# Altium integrated library Xilinx Memory SPROM.IntLib: 32 symbols
Pins are listed as number, name and electrical type; pins without a type are passive.

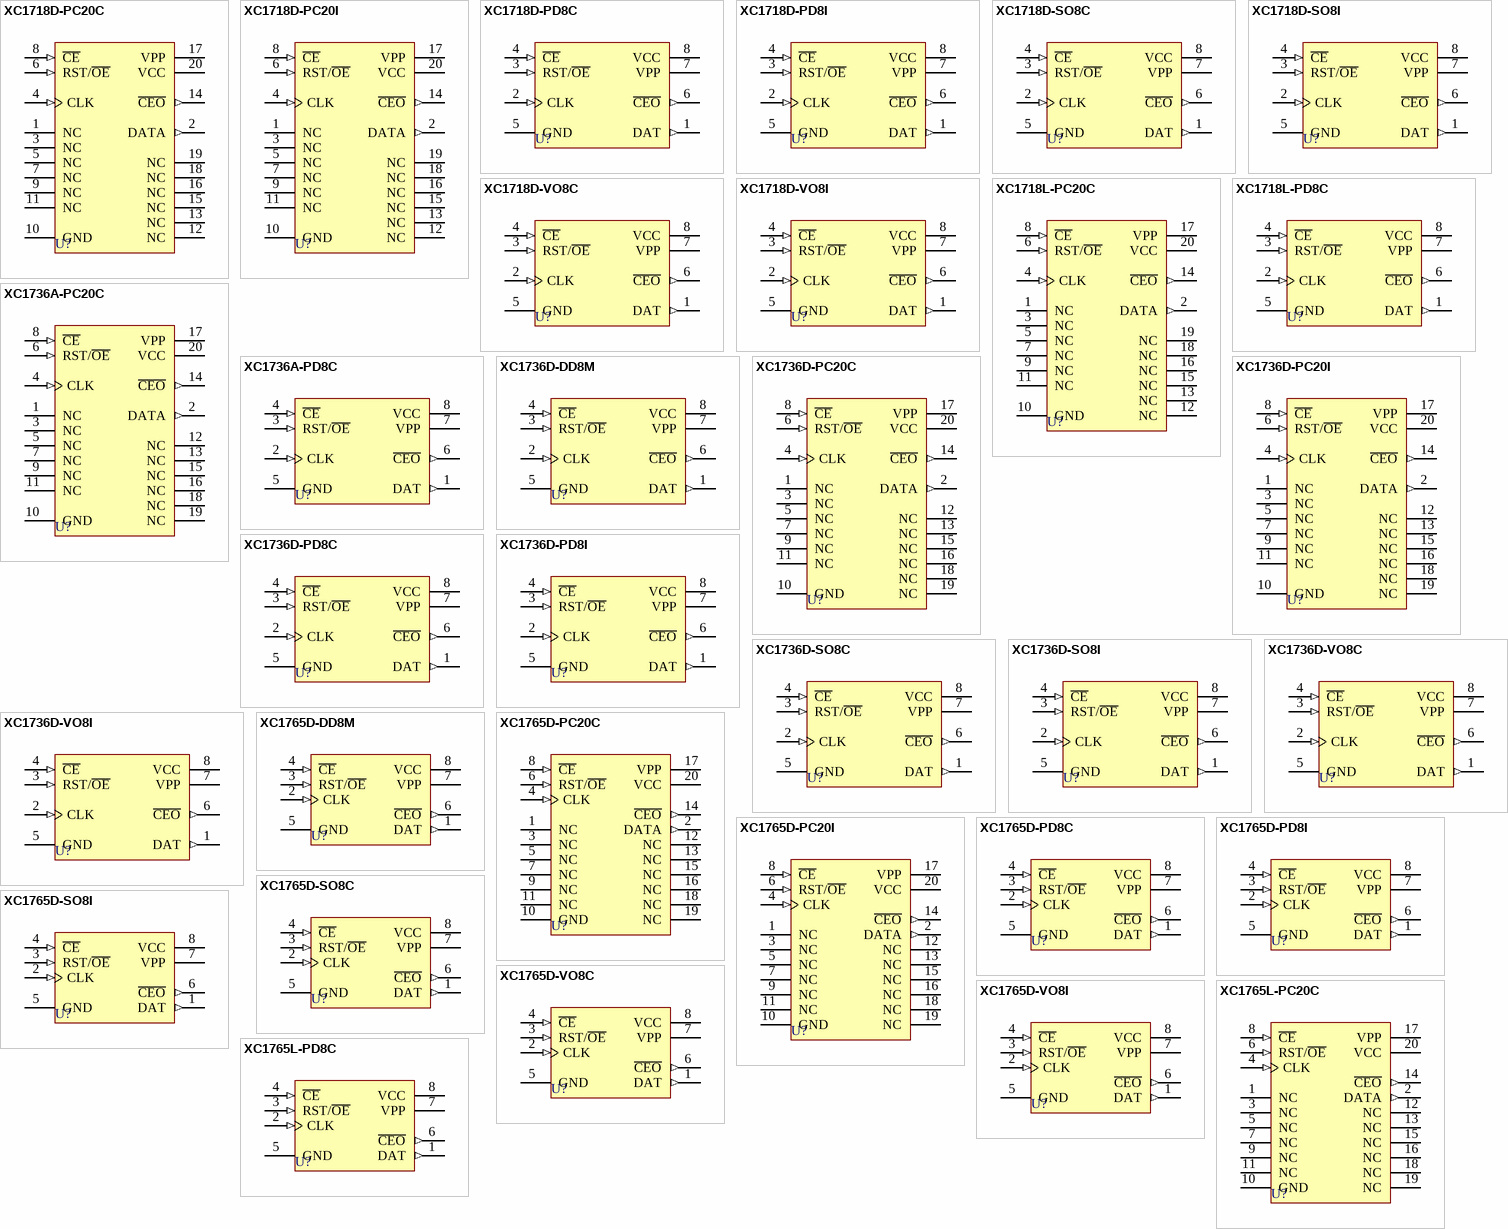
[diagram p0: symbols XC1718D-PC20C to XC1765L-PD8C]

## XC1718D-PC20C
designator U?
Serial Configuration PROM, 20-Pin PLCC, Commercial Grade; PackageDocument: ver1.0, Jun-2000; Published: 8-Jun-2000; LatestRevisionDate: 17-Sep-2003; LatestRevisionNote: PCB Footprint dimensions updated; DatasheetDocument: 1994; PackageReference: PC20; Publisher: Altium Limited; Code_JEDEC: MS-047
footprint PC20 (20-Pin Plastic Leaded Chip Carrier (PC20))
pins: 1 NC, 2 DATA (out), 3 NC, 4 CLK (in), 5 NC, 6 RST/~{OE} (in), 7 NC, 8 ~{CE} (in), 9 NC, 10 GND (power), 11 NC, 12 NC, 13 NC, 14 ~{CEO} (out), 15 NC, 16 NC, 17 VPP (power), 18 NC, 19 NC, 20 VCC (power)

## XC1718D-PC20I
designator U?
Serial Configuration PROM, 20-Pin PLCC, Industrial Grade; PackageDocument: ver1.0, Jun-2000; Published: 8-Jun-2000; LatestRevisionDate: 17-Sep-2003; LatestRevisionNote: PCB Footprint dimensions updated; DatasheetDocument: 1994; PackageReference: PC20; Publisher: Altium Limited; Code_JEDEC: MS-047
footprint PC20 (20-Pin Plastic Leaded Chip Carrier (PC20))
pins: 1 NC, 2 DATA (out), 3 NC, 4 CLK (in), 5 NC, 6 RST/~{OE} (in), 7 NC, 8 ~{CE} (in), 9 NC, 10 GND (power), 11 NC, 12 NC, 13 NC, 14 ~{CEO} (out), 15 NC, 16 NC, 17 VPP (power), 18 NC, 19 NC, 20 VCC (power)

## XC1718D-PD8C
designator U?
Serial Configuration PROM, 8-Pin PDIP, Commercial Grade; PackageDocument: rev1.1, Apr-2001; Published: 8-Jun-2000; LatestRevisionDate: 17-Jul-2002; LatestRevisionNote: Re-released for DXP Platform.; DatasheetDocument: 1994; PackageReference: PD8; Publisher: Altium Limited; Code_JEDEC: MS-001-BA
footprint PD8 (8-Pin Plastic DIP (PD8))
pins: 1 DAT (out), 2 CLK (in), 3 RST/~{OE} (in), 4 ~{CE} (in), 5 GND (power), 6 ~{CEO} (out), 7 VPP (power), 8 VCC (power)

## XC1718D-PD8I
designator U?
Serial Configuration PROM, 8-Pin PDIP, Industrial Grade; PackageDocument: rev1.1, Apr-2001; Published: 8-Jun-2000; LatestRevisionDate: 17-Jul-2002; LatestRevisionNote: Re-released for DXP Platform.; DatasheetDocument: 1994; PackageReference: PD8; Publisher: Altium Limited; Code_JEDEC: MS-001-BA
footprint PD8 (8-Pin Plastic DIP (PD8))
pins: 1 DAT (out), 2 CLK (in), 3 RST/~{OE} (in), 4 ~{CE} (in), 5 GND (power), 6 ~{CEO} (out), 7 VPP (power), 8 VCC (power)

## XC1718D-SO8C
designator U?
Serial Configuration PROM, 8-Pin SOIC, Commercial Grade; PackageDocument: ver1.1, Apr-2001; Published: 8-Jun-2000; LatestRevisionDate: 17-Sep-2003; LatestRevisionNote: PCB Footprint dimensions updated; DatasheetDocument: 1994; PackageReference: SO8; Publisher: Altium Limited; Code_JEDEC: MS-012
footprint SO8 (8-Lead SOIC (SO8))
pins: 1 DAT (out), 2 CLK (in), 3 RST/~{OE} (in), 4 ~{CE} (in), 5 GND (power), 6 ~{CEO} (out), 7 VPP (power), 8 VCC (power)

## XC1718D-SO8I
designator U?
Serial Configuration PROM, 8-Pin SOIC, Industrial Grade; PackageDocument: ver1.1, Apr-2001; Published: 8-Jun-2000; LatestRevisionDate: 17-Sep-2003; LatestRevisionNote: PCB Footprint dimensions updated; DatasheetDocument: 1994; PackageReference: SO8; Publisher: Altium Limited; Code_JEDEC: MS-012
footprint SO8 (8-Lead SOIC (SO8))
pins: 1 DAT (out), 2 CLK (in), 3 RST/~{OE} (in), 4 ~{CE} (in), 5 GND (power), 6 ~{CEO} (out), 7 VPP (power), 8 VCC (power)

## XC1718D-VO8C
designator U?
Serial Configuration PROM, 8-Pin TSOP, Commercial Grade; PackageDocument: ver1.1, Apr-2001; Published: 8-Jun-2000; LatestRevisionDate: 17-Sep-2003; LatestRevisionNote: PCB Footprint dimensions updated; DatasheetDocument: 1994; PackageReference: VO8; Publisher: Altium Limited
footprint VO8 (8-Lead TSOP (VO8))
pins: 1 DAT (out), 2 CLK (in), 3 RST/~{OE} (in), 4 ~{CE} (in), 5 GND (power), 6 ~{CEO} (out), 7 VPP (power), 8 VCC (power)

## XC1718D-VO8I
designator U?
Serial Configuration PROM, 8-Pin TSOP, Industrial Grade; PackageDocument: ver1.1, Apr-2001; Published: 8-Jun-2000; LatestRevisionDate: 17-Sep-2003; LatestRevisionNote: PCB Footprint dimensions updated; DatasheetDocument: 1994; PackageReference: VO8; Publisher: Altium Limited
footprint VO8 (8-Lead TSOP (VO8))
pins: 1 DAT (out), 2 CLK (in), 3 RST/~{OE} (in), 4 ~{CE} (in), 5 GND (power), 6 ~{CEO} (out), 7 VPP (power), 8 VCC (power)

## XC1718L-PC20C
designator U?
Serial Configuration PROM, 20-Pin PLCC, Commercial Grade; PackageDocument: ver1.0, Jun-2000; Published: 8-Jun-2000; LatestRevisionDate: 17-Sep-2003; LatestRevisionNote: PCB Footprint dimensions updated; DatasheetDocument: 1994; PackageReference: PC20; Publisher: Altium Limited; Code_JEDEC: MS-047
footprint PC20 (20-Pin Plastic Leaded Chip Carrier (PC20))
pins: 1 NC, 2 DATA (out), 3 NC, 4 CLK (in), 5 NC, 6 RST/~{OE} (in), 7 NC, 8 ~{CE} (in), 9 NC, 10 GND (power), 11 NC, 12 NC, 13 NC, 14 ~{CEO} (out), 15 NC, 16 NC, 17 VPP (power), 18 NC, 19 NC, 20 VCC (power)

## XC1718L-PD8C
designator U?
Serial Configuration PROM, 8-Pin PDIP, Commercial Grade; PackageDocument: rev1.1, Apr-2001; Published: 8-Jun-2000; LatestRevisionDate: 17-Jul-2002; LatestRevisionNote: Re-released for DXP Platform.; DatasheetDocument: 1994; PackageReference: PD8; Publisher: Altium Limited; Code_JEDEC: MS-001-BA
footprint PD8 (8-Pin Plastic DIP (PD8))
pins: 1 DAT (out), 2 CLK (in), 3 RST/~{OE} (in), 4 ~{CE} (in), 5 GND (power), 6 ~{CEO} (out), 7 VPP (power), 8 VCC (power)

## XC1736A-PC20C
designator U?
Serial Configuration PROM, 20-Pin PLCC, Commercial Grade; PackageDocument: ver1.0, Jun-2000; Published: 8-Jun-2000; LatestRevisionDate: 17-Sep-2003; LatestRevisionNote: PCB Footprint dimensions updated; DatasheetDocument: 1992; PackageReference: PC20; Publisher: Altium Limited; Code_JEDEC: MS-047
footprint PC20 (20-Pin Plastic Leaded Chip Carrier (PC20))
pins: 1 NC, 2 DATA (out), 3 NC, 4 CLK (in), 5 NC, 6 RST/~{OE} (in), 7 NC, 8 ~{CE} (in), 9 NC, 10 GND (power), 11 NC, 12 NC, 13 NC, 14 ~{CEO} (out), 15 NC, 16 NC, 17 VPP (power), 18 NC, 19 NC, 20 VCC (power)

## XC1736A-PD8C
designator U?
Serial Configuration PROM, 8-Pin PDIP, Commercial Grade; PackageDocument: rev1.1, Apr-2001; Published: 8-Jun-2000; LatestRevisionDate: 17-Jul-2002; LatestRevisionNote: Re-released for DXP Platform.; DatasheetDocument: 1992; PackageReference: PD8; Publisher: Altium Limited; Code_JEDEC: MS-001-BA
footprint PD8 (8-Pin Plastic DIP (PD8))
pins: 1 DAT (out), 2 CLK (in), 3 RST/~{OE} (in), 4 ~{CE} (in), 5 GND (power), 6 ~{CEO} (out), 7 VPP (power), 8 VCC (power)

## XC1736D-DD8M
designator U?
Serial Configuration PROM, 8-Pin DIP, Military Grade; PackageDocument: rev1.0, Apr-2001; Published: 8-Jun-2000; LatestRevisionDate: 17-Sep-2003; LatestRevisionNote: PCB Footprint dimensions updated; DatasheetDocument: 1994; PackageReference: DD8; Publisher: Altium Limited; Code_JEDEC: MO-001-AN*
footprint DD8 (8-Pin Ceramic DIP (DD8))
pins: 1 DAT (out), 2 CLK (in), 3 RST/~{OE} (in), 4 ~{CE} (in), 5 GND (power), 6 ~{CEO} (out), 7 VPP (power), 8 VCC (power)

## XC1736D-PC20C
designator U?
Serial Configuration PROM, 20-Pin PLCC, Commercial Grade; PackageDocument: ver1.0, Jun-2000; Published: 8-Jun-2000; LatestRevisionDate: 17-Sep-2003; LatestRevisionNote: PCB Footprint dimensions updated; DatasheetDocument: 1994; PackageReference: PC20; Publisher: Altium Limited; Code_JEDEC: MS-047
footprint PC20 (20-Pin Plastic Leaded Chip Carrier (PC20))
pins: 1 NC, 2 DATA (out), 3 NC, 4 CLK (in), 5 NC, 6 RST/~{OE} (in), 7 NC, 8 ~{CE} (in), 9 NC, 10 GND (power), 11 NC, 12 NC, 13 NC, 14 ~{CEO} (out), 15 NC, 16 NC, 17 VPP (power), 18 NC, 19 NC, 20 VCC (power)

## XC1736D-PC20I
designator U?
Serial Configuration PROM, 20-Pin PLCC, Industrial Grade; PackageDocument: ver1.0, Jun-2000; Published: 8-Jun-2000; LatestRevisionDate: 17-Sep-2003; LatestRevisionNote: PCB Footprint dimensions updated; DatasheetDocument: 1994; PackageReference: PC20; Publisher: Altium Limited; Code_JEDEC: MS-047
footprint PC20 (20-Pin Plastic Leaded Chip Carrier (PC20))
pins: 1 NC, 2 DATA (out), 3 NC, 4 CLK (in), 5 NC, 6 RST/~{OE} (in), 7 NC, 8 ~{CE} (in), 9 NC, 10 GND (power), 11 NC, 12 NC, 13 NC, 14 ~{CEO} (out), 15 NC, 16 NC, 17 VPP (power), 18 NC, 19 NC, 20 VCC (power)

## XC1736D-PD8C
designator U?
Serial Configuration PROM, 8-Pin PDIP, Commercial Grade; PackageDocument: rev1.1, Apr-2001; Published: 8-Jun-2000; LatestRevisionDate: 17-Jul-2002; LatestRevisionNote: Re-released for DXP Platform.; DatasheetDocument: 1994; PackageReference: PD8; Publisher: Altium Limited; Code_JEDEC: MS-001-BA
footprint PD8 (8-Pin Plastic DIP (PD8))
pins: 1 DAT (out), 2 CLK (in), 3 RST/~{OE} (in), 4 ~{CE} (in), 5 GND (power), 6 ~{CEO} (out), 7 VPP (power), 8 VCC (power)

## XC1736D-PD8I
designator U?
Serial Configuration PROM, 8-Pin PDIP, Industrial Grade; PackageDocument: rev1.1, Apr-2001; Published: 8-Jun-2000; LatestRevisionDate: 17-Jul-2002; LatestRevisionNote: Re-released for DXP Platform.; DatasheetDocument: 1994; PackageReference: PD8; Publisher: Altium Limited; Code_JEDEC: MS-001-BA
footprint PD8 (8-Pin Plastic DIP (PD8))
pins: 1 DAT (out), 2 CLK (in), 3 RST/~{OE} (in), 4 ~{CE} (in), 5 GND (power), 6 ~{CEO} (out), 7 VPP (power), 8 VCC (power)

## XC1736D-SO8C
designator U?
Serial Configuration PROM, 8-Pin SOIC, Commercial Grade; PackageDocument: ver1.1, Apr-2001; Published: 8-Jun-2000; LatestRevisionDate: 17-Sep-2003; LatestRevisionNote: PCB Footprint dimensions updated; DatasheetDocument: 1994; PackageReference: SO8; Publisher: Altium Limited; Code_JEDEC: MS-012
footprint SO8 (8-Lead SOIC (SO8))
pins: 1 DAT (out), 2 CLK (in), 3 RST/~{OE} (in), 4 ~{CE} (in), 5 GND (power), 6 ~{CEO} (out), 7 VPP (power), 8 VCC (power)

## XC1736D-SO8I
designator U?
Serial Configuration PROM, 8-Pin SOIC, Industrial Grade; PackageDocument: ver1.1, Apr-2001; Published: 8-Jun-2000; LatestRevisionDate: 17-Sep-2003; LatestRevisionNote: PCB Footprint dimensions updated; DatasheetDocument: 1994; PackageReference: SO8; Publisher: Altium Limited; Code_JEDEC: MS-012
footprint SO8 (8-Lead SOIC (SO8))
pins: 1 DAT (out), 2 CLK (in), 3 RST/~{OE} (in), 4 ~{CE} (in), 5 GND (power), 6 ~{CEO} (out), 7 VPP (power), 8 VCC (power)

## XC1736D-VO8C
designator U?
Serial Configuration PROM, 8-Pin TSOP, Commercial Grade; PackageDocument: ver1.1, Apr-2001; Published: 8-Jun-2000; LatestRevisionDate: 17-Sep-2003; LatestRevisionNote: PCB Footprint dimensions updated; DatasheetDocument: 1994; PackageReference: VO8; Publisher: Altium Limited
footprint VO8 (8-Lead TSOP (VO8))
pins: 1 DAT (out), 2 CLK (in), 3 RST/~{OE} (in), 4 ~{CE} (in), 5 GND (power), 6 ~{CEO} (out), 7 VPP (power), 8 VCC (power)

## XC1736D-VO8I
designator U?
Serial Configuration PROM, 8-Pin TSOP, Industrial Grade; PackageDocument: ver1.1, Apr-2001; Published: 8-Jun-2000; LatestRevisionDate: 17-Sep-2003; LatestRevisionNote: PCB Footprint dimensions updated; DatasheetDocument: 1994; PackageReference: VO8; Publisher: Altium Limited
footprint VO8 (8-Lead TSOP (VO8))
pins: 1 DAT (out), 2 CLK (in), 3 RST/~{OE} (in), 4 ~{CE} (in), 5 GND (power), 6 ~{CEO} (out), 7 VPP (power), 8 VCC (power)

## XC1765D-DD8M
designator U?
Serial Configuration PROM, 8-Pin DIP, Military Grade; PackageDocument: rev1.0, Apr-2001; Published: 8-Jun-2000; LatestRevisionDate: 17-Sep-2003; LatestRevisionNote: PCB Footprint dimensions updated; DatasheetDocument: 1994; PackageReference: DD8; Publisher: Altium Limited; Code_JEDEC: MO-001-AN*
footprint DD8 (8-Pin Ceramic DIP (DD8))
pins: 1 DAT (out), 2 CLK (in), 3 RST/~{OE} (in), 4 ~{CE} (in), 5 GND (power), 6 ~{CEO} (out), 7 VPP (power), 8 VCC (power)

## XC1765D-PC20C
designator U?
Serial Configuration PROM, 20-Pin PLCC, Commercial Grade; PackageDocument: ver1.0, Jun-2000; Published: 8-Jun-2000; LatestRevisionDate: 17-Sep-2003; LatestRevisionNote: PCB Footprint dimensions updated; DatasheetDocument: 1994; PackageReference: PC20; Publisher: Altium Limited; Code_JEDEC: MS-047
footprint PC20 (20-Pin Plastic Leaded Chip Carrier (PC20))
pins: 1 NC, 2 DATA (out), 3 NC, 4 CLK (in), 5 NC, 6 RST/~{OE} (in), 7 NC, 8 ~{CE} (in), 9 NC, 10 GND (power), 11 NC, 12 NC, 13 NC, 14 ~{CEO} (out), 15 NC, 16 NC, 17 VPP (power), 18 NC, 19 NC, 20 VCC (power)

## XC1765D-PC20I
designator U?
Serial Configuration PROM, 20-Pin PLCC, Industrial Grade; PackageDocument: ver1.0, Jun-2000; Published: 8-Jun-2000; LatestRevisionDate: 17-Sep-2003; LatestRevisionNote: PCB Footprint dimensions updated; DatasheetDocument: 1994; PackageReference: PC20; Publisher: Altium Limited; Code_JEDEC: MS-047
footprint PC20 (20-Pin Plastic Leaded Chip Carrier (PC20))
pins: 1 NC, 2 DATA (out), 3 NC, 4 CLK (in), 5 NC, 6 RST/~{OE} (in), 7 NC, 8 ~{CE} (in), 9 NC, 10 GND (power), 11 NC, 12 NC, 13 NC, 14 ~{CEO} (out), 15 NC, 16 NC, 17 VPP (power), 18 NC, 19 NC, 20 VCC (power)

## XC1765D-PD8C
designator U?
Serial Configuration PROM, 8-Pin PDIP, Commercial Grade; PackageDocument: rev1.1, Apr-2001; Published: 8-Jun-2000; LatestRevisionDate: 17-Jul-2002; LatestRevisionNote: Re-released for DXP Platform.; DatasheetDocument: 1994; PackageReference: PD8; Publisher: Altium Limited; Code_JEDEC: MS-001-BA
footprint PD8 (8-Pin Plastic DIP (PD8))
pins: 1 DAT (out), 2 CLK (in), 3 RST/~{OE} (in), 4 ~{CE} (in), 5 GND (power), 6 ~{CEO} (out), 7 VPP (power), 8 VCC (power)

## XC1765D-PD8I
designator U?
Serial Configuration PROM, 8-Pin PDIP, Industrial Grade; PackageDocument: rev1.1, Apr-2001; Published: 8-Jun-2000; LatestRevisionDate: 17-Jul-2002; LatestRevisionNote: Re-released for DXP Platform.; DatasheetDocument: 1994; PackageReference: PD8; Publisher: Altium Limited; Code_JEDEC: MS-001-BA
footprint PD8 (8-Pin Plastic DIP (PD8))
pins: 1 DAT (out), 2 CLK (in), 3 RST/~{OE} (in), 4 ~{CE} (in), 5 GND (power), 6 ~{CEO} (out), 7 VPP (power), 8 VCC (power)

## XC1765D-SO8C
designator U?
Serial Configuration PROM, 8-Pin SOIC, Commercial Grade; PackageDocument: ver1.1, Apr-2001; Published: 8-Jun-2000; LatestRevisionDate: 17-Sep-2003; LatestRevisionNote: PCB Footprint dimensions updated; DatasheetDocument: 1994; PackageReference: SO8; Publisher: Altium Limited; Code_JEDEC: MS-012
footprint SO8 (8-Lead SOIC (SO8))
pins: 1 DAT (out), 2 CLK (in), 3 RST/~{OE} (in), 4 ~{CE} (in), 5 GND (power), 6 ~{CEO} (out), 7 VPP (power), 8 VCC (power)

## XC1765D-SO8I
designator U?
Serial Configuration PROM, 8-Pin SOIC, Industrial Grade; PackageDocument: ver1.1, Apr-2001; Published: 8-Jun-2000; LatestRevisionDate: 17-Sep-2003; LatestRevisionNote: PCB Footprint dimensions updated; DatasheetDocument: 1994; PackageReference: SO8; Publisher: Altium Limited; Code_JEDEC: MS-012
footprint SO8 (8-Lead SOIC (SO8))
pins: 1 DAT (out), 2 CLK (in), 3 RST/~{OE} (in), 4 ~{CE} (in), 5 GND (power), 6 ~{CEO} (out), 7 VPP (power), 8 VCC (power)

## XC1765D-VO8C
designator U?
Serial Configuration PROM, 8-Pin TSOP, Commercial Grade; PackageDocument: ver1.1, Apr-2001; Published: 8-Jun-2000; LatestRevisionDate: 17-Sep-2003; LatestRevisionNote: PCB Footprint dimensions updated; DatasheetDocument: 1994; PackageReference: VO8; Publisher: Altium Limited
footprint VO8 (8-Lead TSOP (VO8))
pins: 1 DAT (out), 2 CLK (in), 3 RST/~{OE} (in), 4 ~{CE} (in), 5 GND (power), 6 ~{CEO} (out), 7 VPP (power), 8 VCC (power)

## XC1765D-VO8I
designator U?
Serial Configuration PROM, 8-Pin TSOP, Industrial Grade; PackageDocument: ver1.1, Apr-2001; Published: 8-Jun-2000; LatestRevisionDate: 17-Sep-2003; LatestRevisionNote: PCB Footprint dimensions updated; DatasheetDocument: 1994; PackageReference: VO8; Publisher: Altium Limited
footprint VO8 (8-Lead TSOP (VO8))
pins: 1 DAT (out), 2 CLK (in), 3 RST/~{OE} (in), 4 ~{CE} (in), 5 GND (power), 6 ~{CEO} (out), 7 VPP (power), 8 VCC (power)

## XC1765L-PC20C
designator U?
Serial Configuration PROM, 20-Pin PLCC, Commercial Grade; PackageDocument: ver1.0, Jun-2000; Published: 8-Jun-2000; LatestRevisionDate: 17-Sep-2003; LatestRevisionNote: PCB Footprint dimensions updated; DatasheetDocument: 1994; PackageReference: PC20; Publisher: Altium Limited; Code_JEDEC: MS-047
footprint PC20 (20-Pin Plastic Leaded Chip Carrier (PC20))
pins: 1 NC, 2 DATA (out), 3 NC, 4 CLK (in), 5 NC, 6 RST/~{OE} (in), 7 NC, 8 ~{CE} (in), 9 NC, 10 GND (power), 11 NC, 12 NC, 13 NC, 14 ~{CEO} (out), 15 NC, 16 NC, 17 VPP (power), 18 NC, 19 NC, 20 VCC (power)

## XC1765L-PD8C
designator U?
Serial Configuration PROM, 8-Pin PDIP, Commercial Grade; PackageDocument: rev1.1, Apr-2001; Published: 8-Jun-2000; LatestRevisionDate: 17-Jul-2002; LatestRevisionNote: Re-released for DXP Platform.; DatasheetDocument: 1994; PackageReference: PD8; Publisher: Altium Limited; Code_JEDEC: MS-001-BA
footprint PD8 (8-Pin Plastic DIP (PD8))
pins: 1 DAT (out), 2 CLK (in), 3 RST/~{OE} (in), 4 ~{CE} (in), 5 GND (power), 6 ~{CEO} (out), 7 VPP (power), 8 VCC (power)